# EAGLE library part RS232-MOD (library ED-MOD)
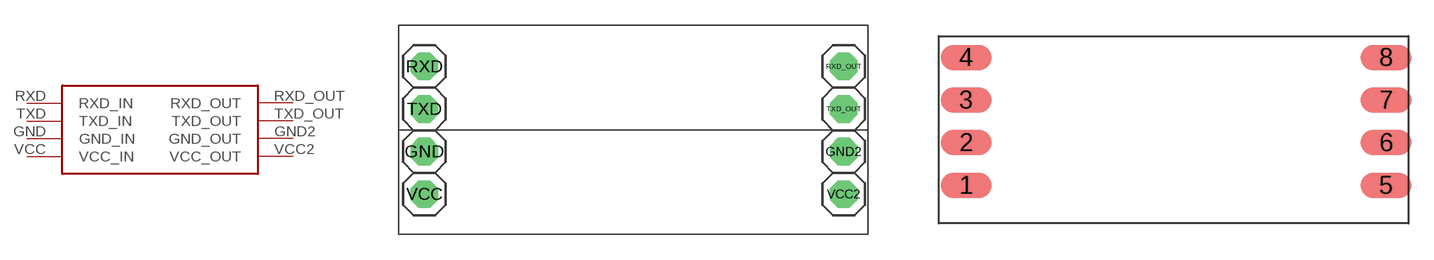
[diagram p1: symbol with the pads of RS232-MOD-1; footprints RS232-MOD-1, RS232-MOD-2]

Designator prefix -

## RS232-MOD  [RS232-MOD-1]
GND  GND_IN
GND2  GND_OUT
RXD  RXD_IN
RXD_OUT  RXD_OUT
TXD  TXD_IN
TXD_OUT  TXD_OUT
VCC  VCC_IN
VCC2  VCC_OUT

## RS232-MODV2  [RS232-MOD-2]
1  VCC_IN
2  GND_IN
3  TXD_IN
4  RXD_IN
5  VCC_OUT
6  GND_OUT
7  TXD_OUT
8  RXD_OUT

## Footprint RS232-MOD-1 (pad centres in mm)
drill 1.1 octagon: GND 1.544,4.949; GND2 26.544,4.949; RXD 1.544,10.029; RXD_OUT 26.544,10.029; TXD 1.544,7.489; TXD_OUT 26.544,7.489; VCC 1.544,2.409; VCC2 26.544,2.409

## Footprint RS232-MOD-2 (pad centres in mm)
smd 3.048 x 1.524: 1 -6,-3.81; 2 -6,-1.27; 3 -6,1.27; 4 -6,3.81; 5 19,-3.81; 6 19,-1.27; 7 19,1.27; 8 19,3.81